# Altium integrated library Linear Technology PMIC-Switching Reg LTC1174-LTC3901.IntLib: 2647 symbols (part 148 of 310)
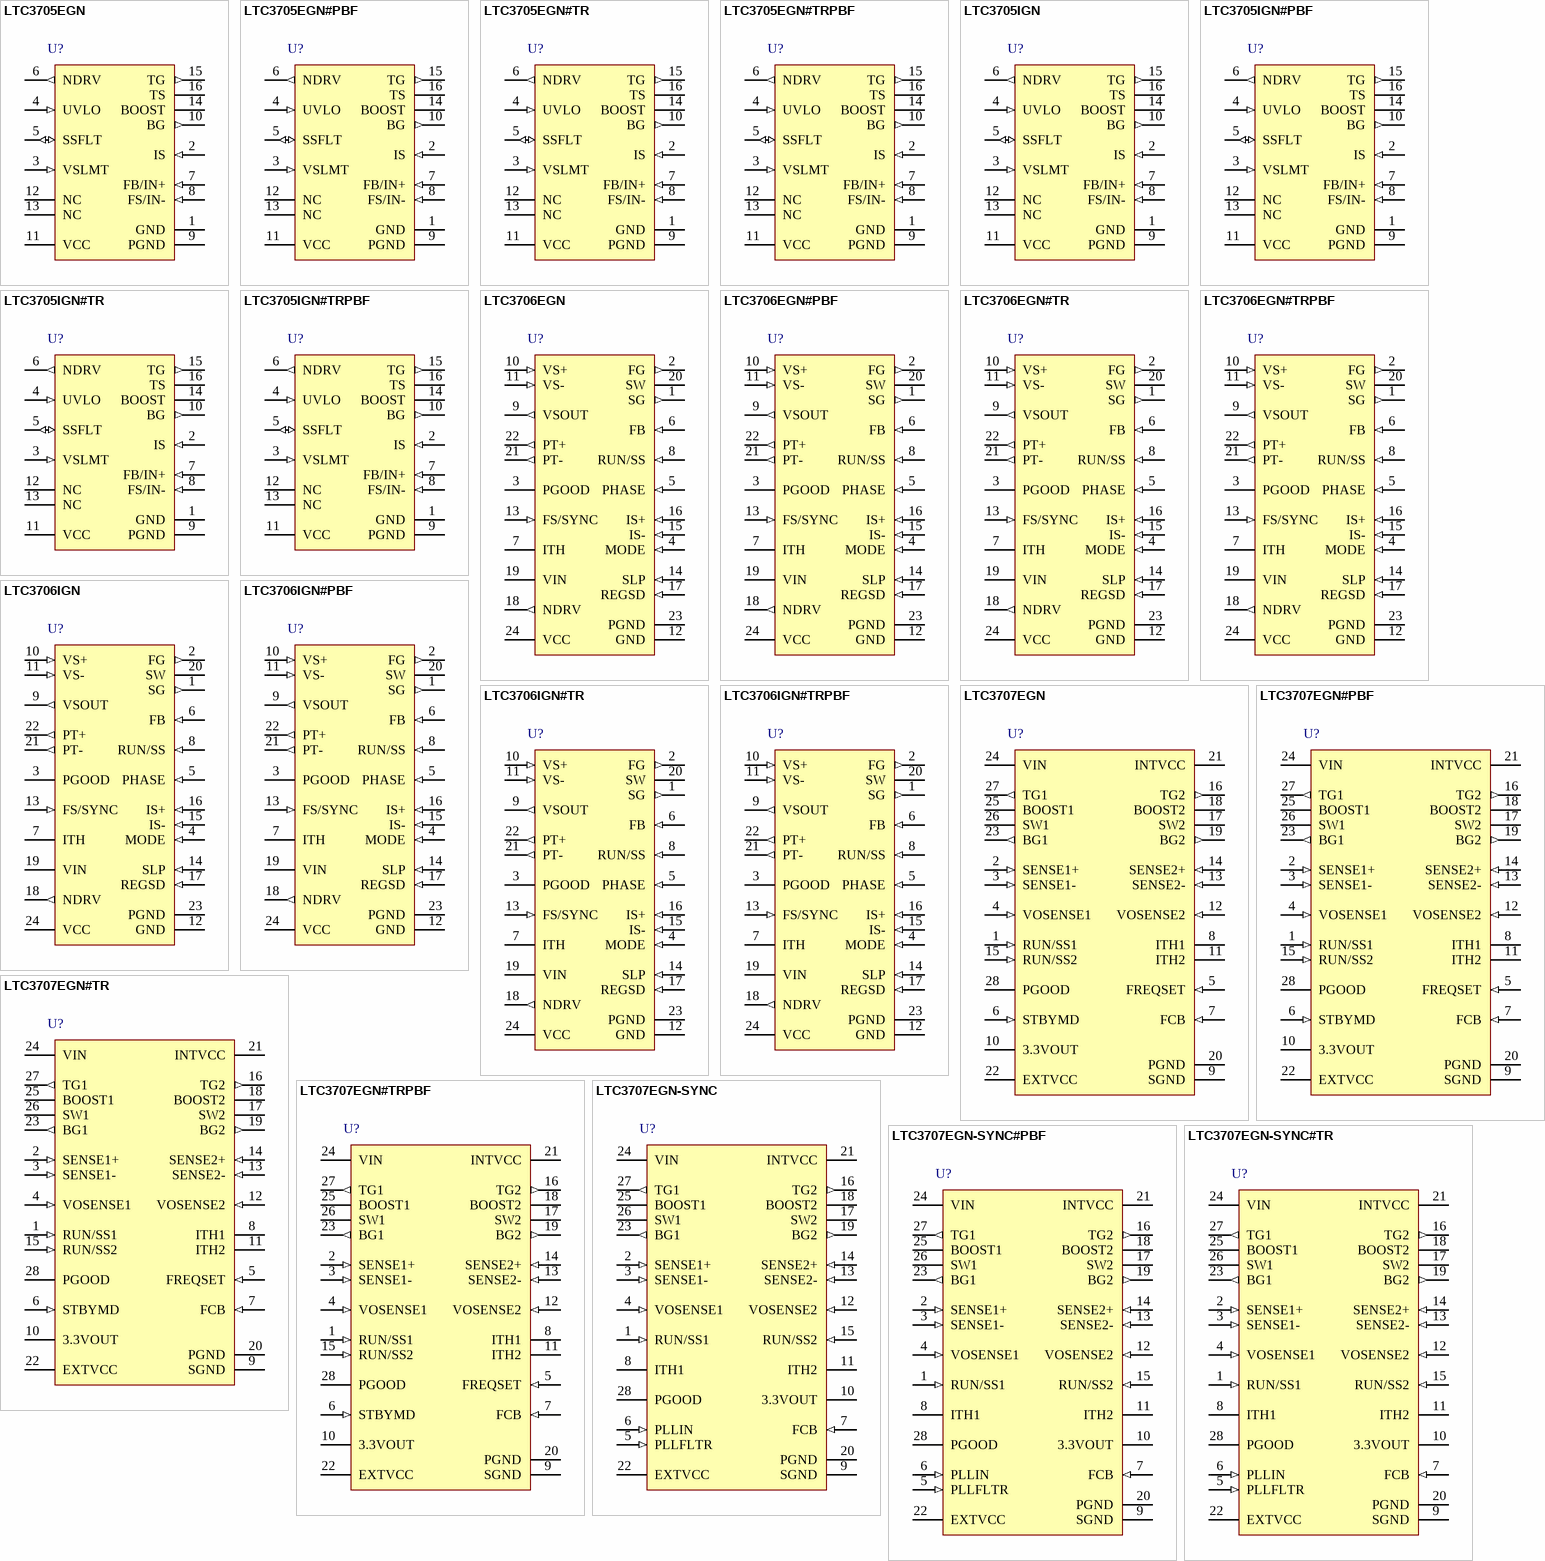
[diagram p199: symbols LTC3705EGN to LTC3707EGN-SYNC#TR]

## LTC3706IGN
designator U?
Secondary-Side Synchronous Forward Controller with Polyphase Capability, 24-pin SOP (GN-24), -40 to 85 degC; Manufacturer: Linear Technology; PartNumber: LTC3706IGN; Number of Outputs: 1; PackageReference: GN24; PackageDescription: 24-Pin Plastic SSOP , Body 8.5 x 3.9 mm, Pitch 0.635 mm; RoHS: FALSE
footprint LT-GN-24_N (SOP, 24-Leads, Body 8.7x4mm, Pitch 0.635mm, IPC Medium Density)
footprint LT-GN-24_L (SOP, 24-Leads, Body 8.7x4mm, Pitch 0.635mm, IPC High Density)
footprint LT-GN-24_M (SOP, 24-Leads, Body 8.7x4mm, Pitch 0.635mm, IPC Low Density)
pins: 1 SG (out) "Gate Drive for the “Synchronous” MOSFET.", 2 FG (out) "Gate Drive for the “Forward” MOSFET.", 3 PGOOD (oc) "Open-Drain Power Good Output. The FB pin is monitored to ensure that the output is in regulation. When the output is not in regulation, the PGOOD pin is pulled low.", 4 MODE (in) "Tie to either GND or VCC to set the maximum duty cycle at either 50% or 75% respectively. Tie to ground through either a 200k or 100k resistor (50% or 75% maximum duty cycle) to disable pulse encoding. In this mode, normal (See Datasheet)", 5 PHASE (in) "Control Input to the Phase Selector. This pin determines the phasing of the controller CLK relative to the synchronizing signal at the FS/SYNC pin.", 6 FB (in) "The Inverting Input of the Main Loop Error Amplifier.", 7 ITH "The Output of the Main Loop Error Amplifier. Place compensation components between the ITH pin and GND.", 8 RUN/SS (in) "Combination Run Control and Soft-Start Inputs. A capacitor to ground sets the ramp time of the output voltage. Holding this pin below 0.4V causes the IC to shut down all internal circuitry.", 9 VSOUT (out) "VSOUT is the output of a precision, unity-gain differential amplifier. Tie VS+ and  VS- to the output of the main DC/DC converter to achieve true remote differential sensing. This allows DCR error effects to be minimized.", 10 VS+ (in) "VSOUT is the output of a precision, unity-gain differential amplifier. Tie VS+ and  VS- to the output of the main DC/DC converter to achieve true remote differential sensing. This allows DCR error effects to be minimized.", 11 VS- (in) "VSOUT is the output of a precision, unity-gain differential amplifier. Tie VS+ and  VS- to the output of the main DC/DC converter to achieve true remote differential sensing. This allows DCR error effects to be minimized.", 12 GND (power) "Signal Ground.", 13 FS/SYNC (in) "Combination Frequency Set and SYNC pin. Tie to GND or VCC to run at 200kHz and 300kHz respectively. Place a single resistor to ground at this pin to set the frequency between 100kHz and 500kHz. To synchronize, drive this pin (See Datasheet)", 14 SLP (in) "Slope Compensation Input. Place a single resistor to ground to set the desired amount of slope compensation.", 15 IS- (in) "Negative Input to the Current Sense Circuit. When using current sense transformers, this pin may be tied to VCC for single-ended sensing with a 1.28V maximum current trip level.", 16 IS+ (in) "Positive Input to the Current Sense Circuit. Connect to the positive end of a current sense resistor or to the output of a current sense transformer.", 17 REGSD (in) "This pin is used to prevent overheating of the external linear regulator pass device that generates the VCC supply voltage from the VIN voltage. A current proportional to the voltage across the external pass device flows out (See Datasheet)", 18 NDRV (out) "Drive Output for the External Pass Device of the VCC Linear Regulator. Connect to the base (NPN) or gate (NMOS) of an external N-type device.", 19 VIN (power) "Connect to a higher voltage bias supply, typically the output of a peak detected bias winding. When not used, tie together with the VCC and NDRV pins.", 20 SW "Connect to the drain of the “synchronous” MOSFET. This input is used for adaptive shoot-through prevention and leading edge blanking.", 21 PT- (out) "Pulse Transformer Driver Outputs. For most applications, these connect to a pulse transformer (with a series DC blocking capacitor). The PWM information is multiplexed together with DC power and sent through a single pulse (See Datasheet)", 22 PT+ (out) "Pulse Transformer Driver Outputs. For most applications, these connect to a pulse transformer (with a series DC blocking capacitor). The PWM information is multiplexed together with DC power and sent through a single pulse (See Datasheet)", 23 PGND (power) "Gate Driver Ground Pin.", 24 VCC (power) "Main VCC Input for all Driver and Control Circuitry."

## LTC3706IGN#PBF
designator U?
Secondary-Side Synchronous Forward Controller with Polyphase Capability, 24-pin SOP (GN-24), -40 to 85 degC, Pb-Free; Manufacturer: Linear Technology; PartNumber: LTC3706IGN#PBF; Number of Outputs: 1; PackageReference: GN24; PackageDescription: 24-Pin Plastic SSOP , Body 8.5 x 3.9 mm, Pitch 0.635 mm; Supplier 1: Digi-Key; Supplier Part Number 1: LTC3706IGN#PBF-ND; RoHS: TRUE
footprint LT-GN-24_N (SOP, 24-Leads, Body 8.7x4mm, Pitch 0.635mm, IPC Medium Density)
footprint LT-GN-24_L (SOP, 24-Leads, Body 8.7x4mm, Pitch 0.635mm, IPC High Density)
footprint LT-GN-24_M (SOP, 24-Leads, Body 8.7x4mm, Pitch 0.635mm, IPC Low Density)
pins: 1 SG (out) "Gate Drive for the “Synchronous” MOSFET.", 2 FG (out) "Gate Drive for the “Forward” MOSFET.", 3 PGOOD (oc) "Open-Drain Power Good Output. The FB pin is monitored to ensure that the output is in regulation. When the output is not in regulation, the PGOOD pin is pulled low.", 4 MODE (in) "Tie to either GND or VCC to set the maximum duty cycle at either 50% or 75% respectively. Tie to ground through either a 200k or 100k resistor (50% or 75% maximum duty cycle) to disable pulse encoding. In this mode, normal (See Datasheet)", 5 PHASE (in) "Control Input to the Phase Selector. This pin determines the phasing of the controller CLK relative to the synchronizing signal at the FS/SYNC pin.", 6 FB (in) "The Inverting Input of the Main Loop Error Amplifier.", 7 ITH "The Output of the Main Loop Error Amplifier. Place compensation components between the ITH pin and GND.", 8 RUN/SS (in) "Combination Run Control and Soft-Start Inputs. A capacitor to ground sets the ramp time of the output voltage. Holding this pin below 0.4V causes the IC to shut down all internal circuitry.", 9 VSOUT (out) "VSOUT is the output of a precision, unity-gain differential amplifier. Tie VS+ and  VS- to the output of the main DC/DC converter to achieve true remote differential sensing. This allows DCR error effects to be minimized.", 10 VS+ (in) "VSOUT is the output of a precision, unity-gain differential amplifier. Tie VS+ and  VS- to the output of the main DC/DC converter to achieve true remote differential sensing. This allows DCR error effects to be minimized.", 11 VS- (in) "VSOUT is the output of a precision, unity-gain differential amplifier. Tie VS+ and  VS- to the output of the main DC/DC converter to achieve true remote differential sensing. This allows DCR error effects to be minimized.", 12 GND (power) "Signal Ground.", 13 FS/SYNC (in) "Combination Frequency Set and SYNC pin. Tie to GND or VCC to run at 200kHz and 300kHz respectively. Place a single resistor to ground at this pin to set the frequency between 100kHz and 500kHz. To synchronize, drive this pin (See Datasheet)", 14 SLP (in) "Slope Compensation Input. Place a single resistor to ground to set the desired amount of slope compensation.", 15 IS- (in) "Negative Input to the Current Sense Circuit. When using current sense transformers, this pin may be tied to VCC for single-ended sensing with a 1.28V maximum current trip level.", 16 IS+ (in) "Positive Input to the Current Sense Circuit. Connect to the positive end of a current sense resistor or to the output of a current sense transformer.", 17 REGSD (in) "This pin is used to prevent overheating of the external linear regulator pass device that generates the VCC supply voltage from the VIN voltage. A current proportional to the voltage across the external pass device flows out (See Datasheet)", 18 NDRV (out) "Drive Output for the External Pass Device of the VCC Linear Regulator. Connect to the base (NPN) or gate (NMOS) of an external N-type device.", 19 VIN (power) "Connect to a higher voltage bias supply, typically the output of a peak detected bias winding. When not used, tie together with the VCC and NDRV pins.", 20 SW "Connect to the drain of the “synchronous” MOSFET. This input is used for adaptive shoot-through prevention and leading edge blanking.", 21 PT- (out) "Pulse Transformer Driver Outputs. For most applications, these connect to a pulse transformer (with a series DC blocking capacitor). The PWM information is multiplexed together with DC power and sent through a single pulse (See Datasheet)", 22 PT+ (out) "Pulse Transformer Driver Outputs. For most applications, these connect to a pulse transformer (with a series DC blocking capacitor). The PWM information is multiplexed together with DC power and sent through a single pulse (See Datasheet)", 23 PGND (power) "Gate Driver Ground Pin.", 24 VCC (power) "Main VCC Input for all Driver and Control Circuitry."

## LTC3706IGN#TR
designator U?
Secondary-Side Synchronous Forward Controller with Polyphase Capability, 24-pin SOP (GN-24), -40 to 85 degC, Tape and Reel; Manufacturer: Linear Technology; PartNumber: LTC3706IGN#TR; Number of Outputs: 1; PackageReference: GN24; PackageDescription: 24-Pin Plastic SSOP , Body 8.5 x 3.9 mm, Pitch 0.635 mm; RoHS: FALSE
footprint LT-GN-24_N (SOP, 24-Leads, Body 8.7x4mm, Pitch 0.635mm, IPC Medium Density)
footprint LT-GN-24_L (SOP, 24-Leads, Body 8.7x4mm, Pitch 0.635mm, IPC High Density)
footprint LT-GN-24_M (SOP, 24-Leads, Body 8.7x4mm, Pitch 0.635mm, IPC Low Density)
pins: 1 SG (out) "Gate Drive for the “Synchronous” MOSFET.", 2 FG (out) "Gate Drive for the “Forward” MOSFET.", 3 PGOOD (oc) "Open-Drain Power Good Output. The FB pin is monitored to ensure that the output is in regulation. When the output is not in regulation, the PGOOD pin is pulled low.", 4 MODE (in) "Tie to either GND or VCC to set the maximum duty cycle at either 50% or 75% respectively. Tie to ground through either a 200k or 100k resistor (50% or 75% maximum duty cycle) to disable pulse encoding. In this mode, normal (See Datasheet)", 5 PHASE (in) "Control Input to the Phase Selector. This pin determines the phasing of the controller CLK relative to the synchronizing signal at the FS/SYNC pin.", 6 FB (in) "The Inverting Input of the Main Loop Error Amplifier.", 7 ITH "The Output of the Main Loop Error Amplifier. Place compensation components between the ITH pin and GND.", 8 RUN/SS (in) "Combination Run Control and Soft-Start Inputs. A capacitor to ground sets the ramp time of the output voltage. Holding this pin below 0.4V causes the IC to shut down all internal circuitry.", 9 VSOUT (out) "VSOUT is the output of a precision, unity-gain differential amplifier. Tie VS+ and  VS- to the output of the main DC/DC converter to achieve true remote differential sensing. This allows DCR error effects to be minimized.", 10 VS+ (in) "VSOUT is the output of a precision, unity-gain differential amplifier. Tie VS+ and  VS- to the output of the main DC/DC converter to achieve true remote differential sensing. This allows DCR error effects to be minimized.", 11 VS- (in) "VSOUT is the output of a precision, unity-gain differential amplifier. Tie VS+ and  VS- to the output of the main DC/DC converter to achieve true remote differential sensing. This allows DCR error effects to be minimized.", 12 GND (power) "Signal Ground.", 13 FS/SYNC (in) "Combination Frequency Set and SYNC pin. Tie to GND or VCC to run at 200kHz and 300kHz respectively. Place a single resistor to ground at this pin to set the frequency between 100kHz and 500kHz. To synchronize, drive this pin (See Datasheet)", 14 SLP (in) "Slope Compensation Input. Place a single resistor to ground to set the desired amount of slope compensation.", 15 IS- (in) "Negative Input to the Current Sense Circuit. When using current sense transformers, this pin may be tied to VCC for single-ended sensing with a 1.28V maximum current trip level.", 16 IS+ (in) "Positive Input to the Current Sense Circuit. Connect to the positive end of a current sense resistor or to the output of a current sense transformer.", 17 REGSD (in) "This pin is used to prevent overheating of the external linear regulator pass device that generates the VCC supply voltage from the VIN voltage. A current proportional to the voltage across the external pass device flows out (See Datasheet)", 18 NDRV (out) "Drive Output for the External Pass Device of the VCC Linear Regulator. Connect to the base (NPN) or gate (NMOS) of an external N-type device.", 19 VIN (power) "Connect to a higher voltage bias supply, typically the output of a peak detected bias winding. When not used, tie together with the VCC and NDRV pins.", 20 SW "Connect to the drain of the “synchronous” MOSFET. This input is used for adaptive shoot-through prevention and leading edge blanking.", 21 PT- (out) "Pulse Transformer Driver Outputs. For most applications, these connect to a pulse transformer (with a series DC blocking capacitor). The PWM information is multiplexed together with DC power and sent through a single pulse (See Datasheet)", 22 PT+ (out) "Pulse Transformer Driver Outputs. For most applications, these connect to a pulse transformer (with a series DC blocking capacitor). The PWM information is multiplexed together with DC power and sent through a single pulse (See Datasheet)", 23 PGND (power) "Gate Driver Ground Pin.", 24 VCC (power) "Main VCC Input for all Driver and Control Circuitry."

## LTC3706IGN#TRPBF
designator U?
Secondary-Side Synchronous Forward Controller with Polyphase Capability, 24-pin SOP (GN-24), -40 to 85 degC, Pb-Free, Tape and Reel; Manufacturer: Linear Technology; PartNumber: LTC3706IGN#TRPBF; Number of Outputs: 1; PackageReference: GN24; PackageDescription: 24-Pin Plastic SSOP , Body 8.5 x 3.9 mm, Pitch 0.635 mm; Supplier 1: Digi-Key; Supplier Part Number 1: LTC3706IGN#TRPBF-ND; RoHS: TRUE
footprint LT-GN-24_N (SOP, 24-Leads, Body 8.7x4mm, Pitch 0.635mm, IPC Medium Density)
footprint LT-GN-24_L (SOP, 24-Leads, Body 8.7x4mm, Pitch 0.635mm, IPC High Density)
footprint LT-GN-24_M (SOP, 24-Leads, Body 8.7x4mm, Pitch 0.635mm, IPC Low Density)
pins: 1 SG (out) "Gate Drive for the “Synchronous” MOSFET.", 2 FG (out) "Gate Drive for the “Forward” MOSFET.", 3 PGOOD (oc) "Open-Drain Power Good Output. The FB pin is monitored to ensure that the output is in regulation. When the output is not in regulation, the PGOOD pin is pulled low.", 4 MODE (in) "Tie to either GND or VCC to set the maximum duty cycle at either 50% or 75% respectively. Tie to ground through either a 200k or 100k resistor (50% or 75% maximum duty cycle) to disable pulse encoding. In this mode, normal (See Datasheet)", 5 PHASE (in) "Control Input to the Phase Selector. This pin determines the phasing of the controller CLK relative to the synchronizing signal at the FS/SYNC pin.", 6 FB (in) "The Inverting Input of the Main Loop Error Amplifier.", 7 ITH "The Output of the Main Loop Error Amplifier. Place compensation components between the ITH pin and GND.", 8 RUN/SS (in) "Combination Run Control and Soft-Start Inputs. A capacitor to ground sets the ramp time of the output voltage. Holding this pin below 0.4V causes the IC to shut down all internal circuitry.", 9 VSOUT (out) "VSOUT is the output of a precision, unity-gain differential amplifier. Tie VS+ and  VS- to the output of the main DC/DC converter to achieve true remote differential sensing. This allows DCR error effects to be minimized.", 10 VS+ (in) "VSOUT is the output of a precision, unity-gain differential amplifier. Tie VS+ and  VS- to the output of the main DC/DC converter to achieve true remote differential sensing. This allows DCR error effects to be minimized.", 11 VS- (in) "VSOUT is the output of a precision, unity-gain differential amplifier. Tie VS+ and  VS- to the output of the main DC/DC converter to achieve true remote differential sensing. This allows DCR error effects to be minimized.", 12 GND (power) "Signal Ground.", 13 FS/SYNC (in) "Combination Frequency Set and SYNC pin. Tie to GND or VCC to run at 200kHz and 300kHz respectively. Place a single resistor to ground at this pin to set the frequency between 100kHz and 500kHz. To synchronize, drive this pin (See Datasheet)", 14 SLP (in) "Slope Compensation Input. Place a single resistor to ground to set the desired amount of slope compensation.", 15 IS- (in) "Negative Input to the Current Sense Circuit. When using current sense transformers, this pin may be tied to VCC for single-ended sensing with a 1.28V maximum current trip level.", 16 IS+ (in) "Positive Input to the Current Sense Circuit. Connect to the positive end of a current sense resistor or to the output of a current sense transformer.", 17 REGSD (in) "This pin is used to prevent overheating of the external linear regulator pass device that generates the VCC supply voltage from the VIN voltage. A current proportional to the voltage across the external pass device flows out (See Datasheet)", 18 NDRV (out) "Drive Output for the External Pass Device of the VCC Linear Regulator. Connect to the base (NPN) or gate (NMOS) of an external N-type device.", 19 VIN (power) "Connect to a higher voltage bias supply, typically the output of a peak detected bias winding. When not used, tie together with the VCC and NDRV pins.", 20 SW "Connect to the drain of the “synchronous” MOSFET. This input is used for adaptive shoot-through prevention and leading edge blanking.", 21 PT- (out) "Pulse Transformer Driver Outputs. For most applications, these connect to a pulse transformer (with a series DC blocking capacitor). The PWM information is multiplexed together with DC power and sent through a single pulse (See Datasheet)", 22 PT+ (out) "Pulse Transformer Driver Outputs. For most applications, these connect to a pulse transformer (with a series DC blocking capacitor). The PWM information is multiplexed together with DC power and sent through a single pulse (See Datasheet)", 23 PGND (power) "Gate Driver Ground Pin.", 24 VCC (power) "Main VCC Input for all Driver and Control Circuitry."

## LTC3707EGN
designator U?
High Efficiency, 2-Phase Synchronous Step-Down Switching Regulator, 28-pin SOP (GN-28), -40 to 85 degC; Manufacturer: Linear Technology; PartNumber: LTC3707EGN; Number of Outputs: 2; PackageReference: GN-28; PackageDescription: 28-Pin Plastic SSOP, Body 9.9 x 3.9 mm, Pitch 0.635 mm; Supplier 1: Digi-Key; Supplier Part Number 1: LTC3707EGN-ND; RoHS: FALSE
footprint LT-GN-28_N (SOP, 28-Leads, Body 9.98x3.98mm, Pitch 0.635mm, IPC Medium Density)
footprint LT-GN-28_L (SOP, 28-Leads, Body 9.98x3.98mm, Pitch 0.635mm, IPC High Density)
footprint LT-GN-28_M (SOP, 28-Leads, Body 9.98x3.98mm, Pitch 0.635mm, IPC Low Density)
pins: 1 RUN/SS1 (in) "Combination of soft-start, run control inputs and short-circuit detection timers. A capacitor to ground at each of these pins sets the ramp time to full output current. Forcing either of these pins back below 1.0V causes the (See Datasheet)", 2 SENSE1+ (in) "The (+) Input to the Differential Current Comparators. The ITH pin voltage and controlled offsets between the SENSE- and SENSE+ pins in conjunction with RSENSE set the current trip threshold.", 3 SENSE1- (in) "The (-) Input to the Differential Current Comparators.", 4 VOSENSE1 (in) "Receives the remotely sensed feedback voltage for each controller from an external resistive divider across the output.", 5 FREQSET (in) "Frequency Control Input to the Oscillator. This pin can be left open, tied to ground, tied to INTVCC or driven by an external voltage source. This pin can also be used with an external phase detector to build a true (See Datasheet)", 6 STBYMD (in) "Control pin that determines which circuitry remains active when the controllers are shut down and/or provides a common control point to shut down both controllers. See the Operation section for details.", 7 FCB (in) "Forced Continuous Control Input. This input acts on both controllers and is normally used to regulate a secondary winding. Pulling this pin below 0.8V will force continuous synchronous operation on both controllers. Do not (See Datasheet)", 8 ITH1 "Error Amplifier Output and Switching Regulator Compensation Point. Each associated channels’ current comparator trip point increases with this control voltage.", 9 SGND (power) "Small Signal Ground common to both controllers, must be routed separately from high current grounds to the common (-) terminals of the COUT capacitors.", 10 3.3VOUT (power) "Output of a linear regulator capable of supplying 10mA DC with peak currents as high as 50mA.", 11 ITH2 "Error Amplifier Output and Switching Regulator Compensation Point. Each associated channels’ current comparator trip point increases with this control voltage.", 12 VOSENSE2 (in) "Receives the remotelysensed feedback voltage for each controller from an external resistive divider across the output.", 13 SENSE2- (in) "The (-) Input to the Differential Current Comparators.", 14 SENSE2+ (in) "The (+) Input to the Differential Current Comparators. The ITH pin voltage and controlled offsets between the SENSE- and SENSE+ pins in conjunction with RSENSE set the current trip threshold.", 15 RUN/SS2 (in) "Combination of soft-start, run control inputs and short-circuit detection timers. A capacitor to ground at each of these pins sets the ramp time to full output current. Forcing either of these pins back below 1.0V causes the (See Datasheet)", 16 TG2 (out) "High Current Gate Drives for Top N-Channel MOSFETs. These are the outputs of floating drivers with a voltage swing equal to INTVCC - 0.5V superimposed on the switch node voltage SW.", 17 SW2 "Switch Node Connections to Inductors. Voltage swing at these pins is from a Schottky diode (external) voltage drop below ground to VIN.", 18 BOOST2 "Bootstrapped Supplies to the Top Side Floating Drivers. Capacitors are connected between the boost and switch pins and Schottky diodes are tied between the boost and INTVCC pins. Voltage swing at the boost pins is from (See Datasheet)", 19 BG2 (out) "High Current Gate Drives for Bottom (Synchronous) N-Channel MOSFETs. Voltage swing at these pins is from ground to INTVCC.", 20 PGND (power) "Driver Power Ground. Connects to the sources of bottom (synchronous) N-channel MOSFETs, anodes of the Schottky rectifi ers and the (-) terminal(s) of CIN.", 21 INTVCC (power) "Output of the Internal 5V Linear Low Dropout Regulator and the EXTVCC Switch. The driver and control circuits are powered from this voltage source. Must be decoupled to power ground with a minimum of 4.7uF tantalum or other (See Datasheet)", 22 EXTVCC (power) "External Power Input to an Internal Switch Connected to INTVCC. This switch closes and supplies VCC power, bypassing the internal low dropout regulator, whenever EXTVCC is higher than 4.7V. See EXTVCC connection in (See Datasheet)", 23 BG1 (out) "High Current Gate Drives for Bottom (Synchronous) N-Channel MOSFETs. Voltage swing at these pins is from ground to INTVCC.", 24 VIN (power) "Main Supply Pin. A bypass capacitor should be tied between this pin and the signal ground pin.", 25 BOOST1 "Bootstrapped Supplies to the Top Side Floating Drivers. Capacitors are connected between the boost and switch pins and Schottky diodes are tied between the boost and INTVCC pins. Voltage swing at the boost pins is from (See Datasheet)", 26 SW1 "Switch Node Connections to Inductors. Voltage swing at these pins is from a Schottky diode (external) voltage drop below ground to VIN.", 27 TG1 (out) "High Current Gate Drives for Top N-Channel MOSFETs. These are the outputs of floating drivers with a voltage swing equal to INTVCC - 0.5V superimposed on the switch node voltage SW.", 28 PGOOD (oc) "Open-Drain Logic Output. PGOOD is pulled to ground when the voltage on either VOSENSE pin is not within +/-7.5% of its set point."

## LTC3707EGN#PBF
designator U?
High Efficiency, 2-Phase Synchronous Step-Down Switching Regulator, 28-pin SOP (GN-28), -40 to 85 degC, Pb-Free; Manufacturer: Linear Technology; PartNumber: LTC3707EGN#PBF; Number of Outputs: 2; PackageReference: GN-28; PackageDescription: 28-Pin Plastic SSOP, Body 9.9 x 3.9 mm, Pitch 0.635 mm; Supplier 1: Digi-Key; Supplier Part Number 1: LTC3707EGN#PBF-ND; RoHS: TRUE
footprint LT-GN-28_N (SOP, 28-Leads, Body 9.98x3.98mm, Pitch 0.635mm, IPC Medium Density)
footprint LT-GN-28_L (SOP, 28-Leads, Body 9.98x3.98mm, Pitch 0.635mm, IPC High Density)
footprint LT-GN-28_M (SOP, 28-Leads, Body 9.98x3.98mm, Pitch 0.635mm, IPC Low Density)
pins: 1 RUN/SS1 (in) "Combination of soft-start, run control inputs and short-circuit detection timers. A capacitor to ground at each of these pins sets the ramp time to full output current. Forcing either of these pins back below 1.0V causes the (See Datasheet)", 2 SENSE1+ (in) "The (+) Input to the Differential Current Comparators. The ITH pin voltage and controlled offsets between the SENSE- and SENSE+ pins in conjunction with RSENSE set the current trip threshold.", 3 SENSE1- (in) "The (-) Input to the Differential Current Comparators.", 4 VOSENSE1 (in) "Receives the remotely sensed feedback voltage for each controller from an external resistive divider across the output.", 5 FREQSET (in) "Frequency Control Input to the Oscillator. This pin can be left open, tied to ground, tied to INTVCC or driven by an external voltage source. This pin can also be used with an external phase detector to build a true (See Datasheet)", 6 STBYMD (in) "Control pin that determines which circuitry remains active when the controllers are shut down and/or provides a common control point to shut down both controllers. See the Operation section for details.", 7 FCB (in) "Forced Continuous Control Input. This input acts on both controllers and is normally used to regulate a secondary winding. Pulling this pin below 0.8V will force continuous synchronous operation on both controllers. Do not (See Datasheet)", 8 ITH1 "Error Amplifier Output and Switching Regulator Compensation Point. Each associated channels’ current comparator trip point increases with this control voltage.", 9 SGND (power) "Small Signal Ground common to both controllers, must be routed separately from high current grounds to the common (-) terminals of the COUT capacitors.", 10 3.3VOUT (power) "Output of a linear regulator capable of supplying 10mA DC with peak currents as high as 50mA.", 11 ITH2 "Error Amplifier Output and Switching Regulator Compensation Point. Each associated channels’ current comparator trip point increases with this control voltage.", 12 VOSENSE2 (in) "Receives the remotelysensed feedback voltage for each controller from an external resistive divider across the output.", 13 SENSE2- (in) "The (-) Input to the Differential Current Comparators.", 14 SENSE2+ (in) "The (+) Input to the Differential Current Comparators. The ITH pin voltage and controlled offsets between the SENSE- and SENSE+ pins in conjunction with RSENSE set the current trip threshold.", 15 RUN/SS2 (in) "Combination of soft-start, run control inputs and short-circuit detection timers. A capacitor to ground at each of these pins sets the ramp time to full output current. Forcing either of these pins back below 1.0V causes the (See Datasheet)", 16 TG2 (out) "High Current Gate Drives for Top N-Channel MOSFETs. These are the outputs of floating drivers with a voltage swing equal to INTVCC - 0.5V superimposed on the switch node voltage SW.", 17 SW2 "Switch Node Connections to Inductors. Voltage swing at these pins is from a Schottky diode (external) voltage drop below ground to VIN.", 18 BOOST2 "Bootstrapped Supplies to the Top Side Floating Drivers. Capacitors are connected between the boost and switch pins and Schottky diodes are tied between the boost and INTVCC pins. Voltage swing at the boost pins is from (See Datasheet)", 19 BG2 (out) "High Current Gate Drives for Bottom (Synchronous) N-Channel MOSFETs. Voltage swing at these pins is from ground to INTVCC.", 20 PGND (power) "Driver Power Ground. Connects to the sources of bottom (synchronous) N-channel MOSFETs, anodes of the Schottky rectifi ers and the (-) terminal(s) of CIN.", 21 INTVCC (power) "Output of the Internal 5V Linear Low Dropout Regulator and the EXTVCC Switch. The driver and control circuits are powered from this voltage source. Must be decoupled to power ground with a minimum of 4.7uF tantalum or other (See Datasheet)", 22 EXTVCC (power) "External Power Input to an Internal Switch Connected to INTVCC. This switch closes and supplies VCC power, bypassing the internal low dropout regulator, whenever EXTVCC is higher than 4.7V. See EXTVCC connection in (See Datasheet)", 23 BG1 (out) "High Current Gate Drives for Bottom (Synchronous) N-Channel MOSFETs. Voltage swing at these pins is from ground to INTVCC.", 24 VIN (power) "Main Supply Pin. A bypass capacitor should be tied between this pin and the signal ground pin.", 25 BOOST1 "Bootstrapped Supplies to the Top Side Floating Drivers. Capacitors are connected between the boost and switch pins and Schottky diodes are tied between the boost and INTVCC pins. Voltage swing at the boost pins is from (See Datasheet)", 26 SW1 "Switch Node Connections to Inductors. Voltage swing at these pins is from a Schottky diode (external) voltage drop below ground to VIN.", 27 TG1 (out) "High Current Gate Drives for Top N-Channel MOSFETs. These are the outputs of floating drivers with a voltage swing equal to INTVCC - 0.5V superimposed on the switch node voltage SW.", 28 PGOOD (oc) "Open-Drain Logic Output. PGOOD is pulled to ground when the voltage on either VOSENSE pin is not within +/-7.5% of its set point."

## LTC3707EGN#TR
designator U?
High Efficiency, 2-Phase Synchronous Step-Down Switching Regulator, 28-pin SOP (GN-28), -40 to 85 degC, Tape and Reel; Manufacturer: Linear Technology; PartNumber: LTC3707EGN#TR; Number of Outputs: 2; PackageReference: GN-28; PackageDescription: 28-Pin Plastic SSOP, Body 9.9 x 3.9 mm, Pitch 0.635 mm; Supplier 1: Digi-Key; Supplier Part Number 1: LTC3707EGN#TR-ND; RoHS: FALSE
footprint LT-GN-28_N (SOP, 28-Leads, Body 9.98x3.98mm, Pitch 0.635mm, IPC Medium Density)
footprint LT-GN-28_L (SOP, 28-Leads, Body 9.98x3.98mm, Pitch 0.635mm, IPC High Density)
footprint LT-GN-28_M (SOP, 28-Leads, Body 9.98x3.98mm, Pitch 0.635mm, IPC Low Density)
pins: 1 RUN/SS1 (in) "Combination of soft-start, run control inputs and short-circuit detection timers. A capacitor to ground at each of these pins sets the ramp time to full output current. Forcing either of these pins back below 1.0V causes the (See Datasheet)", 2 SENSE1+ (in) "The (+) Input to the Differential Current Comparators. The ITH pin voltage and controlled offsets between the SENSE- and SENSE+ pins in conjunction with RSENSE set the current trip threshold.", 3 SENSE1- (in) "The (-) Input to the Differential Current Comparators.", 4 VOSENSE1 (in) "Receives the remotely sensed feedback voltage for each controller from an external resistive divider across the output.", 5 FREQSET (in) "Frequency Control Input to the Oscillator. This pin can be left open, tied to ground, tied to INTVCC or driven by an external voltage source. This pin can also be used with an external phase detector to build a true (See Datasheet)", 6 STBYMD (in) "Control pin that determines which circuitry remains active when the controllers are shut down and/or provides a common control point to shut down both controllers. See the Operation section for details.", 7 FCB (in) "Forced Continuous Control Input. This input acts on both controllers and is normally used to regulate a secondary winding. Pulling this pin below 0.8V will force continuous synchronous operation on both controllers. Do not (See Datasheet)", 8 ITH1 "Error Amplifier Output and Switching Regulator Compensation Point. Each associated channels’ current comparator trip point increases with this control voltage.", 9 SGND (power) "Small Signal Ground common to both controllers, must be routed separately from high current grounds to the common (-) terminals of the COUT capacitors.", 10 3.3VOUT (power) "Output of a linear regulator capable of supplying 10mA DC with peak currents as high as 50mA.", 11 ITH2 "Error Amplifier Output and Switching Regulator Compensation Point. Each associated channels’ current comparator trip point increases with this control voltage.", 12 VOSENSE2 (in) "Receives the remotelysensed feedback voltage for each controller from an external resistive divider across the output.", 13 SENSE2- (in) "The (-) Input to the Differential Current Comparators.", 14 SENSE2+ (in) "The (+) Input to the Differential Current Comparators. The ITH pin voltage and controlled offsets between the SENSE- and SENSE+ pins in conjunction with RSENSE set the current trip threshold.", 15 RUN/SS2 (in) "Combination of soft-start, run control inputs and short-circuit detection timers. A capacitor to ground at each of these pins sets the ramp time to full output current. Forcing either of these pins back below 1.0V causes the (See Datasheet)", 16 TG2 (out) "High Current Gate Drives for Top N-Channel MOSFETs. These are the outputs of floating drivers with a voltage swing equal to INTVCC - 0.5V superimposed on the switch node voltage SW.", 17 SW2 "Switch Node Connections to Inductors. Voltage swing at these pins is from a Schottky diode (external) voltage drop below ground to VIN.", 18 BOOST2 "Bootstrapped Supplies to the Top Side Floating Drivers. Capacitors are connected between the boost and switch pins and Schottky diodes are tied between the boost and INTVCC pins. Voltage swing at the boost pins is from (See Datasheet)", 19 BG2 (out) "High Current Gate Drives for Bottom (Synchronous) N-Channel MOSFETs. Voltage swing at these pins is from ground to INTVCC.", 20 PGND (power) "Driver Power Ground. Connects to the sources of bottom (synchronous) N-channel MOSFETs, anodes of the Schottky rectifi ers and the (-) terminal(s) of CIN.", 21 INTVCC (power) "Output of the Internal 5V Linear Low Dropout Regulator and the EXTVCC Switch. The driver and control circuits are powered from this voltage source. Must be decoupled to power ground with a minimum of 4.7uF tantalum or other (See Datasheet)", 22 EXTVCC (power) "External Power Input to an Internal Switch Connected to INTVCC. This switch closes and supplies VCC power, bypassing the internal low dropout regulator, whenever EXTVCC is higher than 4.7V. See EXTVCC connection in (See Datasheet)", 23 BG1 (out) "High Current Gate Drives for Bottom (Synchronous) N-Channel MOSFETs. Voltage swing at these pins is from ground to INTVCC.", 24 VIN (power) "Main Supply Pin. A bypass capacitor should be tied between this pin and the signal ground pin.", 25 BOOST1 "Bootstrapped Supplies to the Top Side Floating Drivers. Capacitors are connected between the boost and switch pins and Schottky diodes are tied between the boost and INTVCC pins. Voltage swing at the boost pins is from (See Datasheet)", 26 SW1 "Switch Node Connections to Inductors. Voltage swing at these pins is from a Schottky diode (external) voltage drop below ground to VIN.", 27 TG1 (out) "High Current Gate Drives for Top N-Channel MOSFETs. These are the outputs of floating drivers with a voltage swing equal to INTVCC - 0.5V superimposed on the switch node voltage SW.", 28 PGOOD (oc) "Open-Drain Logic Output. PGOOD is pulled to ground when the voltage on either VOSENSE pin is not within +/-7.5% of its set point."

## LTC3707EGN#TRPBF
designator U?
High Efficiency, 2-Phase Synchronous Step-Down Switching Regulator, 28-pin SOP (GN-28), -40 to 85 degC, Pb-Free, Tape and Reel; Manufacturer: Linear Technology; PartNumber: LTC3707EGN#TRPBF; Number of Outputs: 2; PackageReference: GN-28; PackageDescription: 28-Pin Plastic SSOP, Body 9.9 x 3.9 mm, Pitch 0.635 mm; Supplier 1: Digi-Key; Supplier Part Number 1: LTC3707EGN#TRPBF-ND; RoHS: TRUE
footprint LT-GN-28_N (SOP, 28-Leads, Body 9.98x3.98mm, Pitch 0.635mm, IPC Medium Density)
footprint LT-GN-28_L (SOP, 28-Leads, Body 9.98x3.98mm, Pitch 0.635mm, IPC High Density)
footprint LT-GN-28_M (SOP, 28-Leads, Body 9.98x3.98mm, Pitch 0.635mm, IPC Low Density)
pins: 1 RUN/SS1 (in) "Combination of soft-start, run control inputs and short-circuit detection timers. A capacitor to ground at each of these pins sets the ramp time to full output current. Forcing either of these pins back below 1.0V causes the (See Datasheet)", 2 SENSE1+ (in) "The (+) Input to the Differential Current Comparators. The ITH pin voltage and controlled offsets between the SENSE- and SENSE+ pins in conjunction with RSENSE set the current trip threshold.", 3 SENSE1- (in) "The (-) Input to the Differential Current Comparators.", 4 VOSENSE1 (in) "Receives the remotely sensed feedback voltage for each controller from an external resistive divider across the output.", 5 FREQSET (in) "Frequency Control Input to the Oscillator. This pin can be left open, tied to ground, tied to INTVCC or driven by an external voltage source. This pin can also be used with an external phase detector to build a true (See Datasheet)", 6 STBYMD (in) "Control pin that determines which circuitry remains active when the controllers are shut down and/or provides a common control point to shut down both controllers. See the Operation section for details.", 7 FCB (in) "Forced Continuous Control Input. This input acts on both controllers and is normally used to regulate a secondary winding. Pulling this pin below 0.8V will force continuous synchronous operation on both controllers. Do not (See Datasheet)", 8 ITH1 "Error Amplifier Output and Switching Regulator Compensation Point. Each associated channels’ current comparator trip point increases with this control voltage.", 9 SGND (power) "Small Signal Ground common to both controllers, must be routed separately from high current grounds to the common (-) terminals of the COUT capacitors.", 10 3.3VOUT (power) "Output of a linear regulator capable of supplying 10mA DC with peak currents as high as 50mA.", 11 ITH2 "Error Amplifier Output and Switching Regulator Compensation Point. Each associated channels’ current comparator trip point increases with this control voltage.", 12 VOSENSE2 (in) "Receives the remotelysensed feedback voltage for each controller from an external resistive divider across the output.", 13 SENSE2- (in) "The (-) Input to the Differential Current Comparators.", 14 SENSE2+ (in) "The (+) Input to the Differential Current Comparators. The ITH pin voltage and controlled offsets between the SENSE- and SENSE+ pins in conjunction with RSENSE set the current trip threshold.", 15 RUN/SS2 (in) "Combination of soft-start, run control inputs and short-circuit detection timers. A capacitor to ground at each of these pins sets the ramp time to full output current. Forcing either of these pins back below 1.0V causes the (See Datasheet)", 16 TG2 (out) "High Current Gate Drives for Top N-Channel MOSFETs. These are the outputs of floating drivers with a voltage swing equal to INTVCC - 0.5V superimposed on the switch node voltage SW.", 17 SW2 "Switch Node Connections to Inductors. Voltage swing at these pins is from a Schottky diode (external) voltage drop below ground to VIN.", 18 BOOST2 "Bootstrapped Supplies to the Top Side Floating Drivers. Capacitors are connected between the boost and switch pins and Schottky diodes are tied between the boost and INTVCC pins. Voltage swing at the boost pins is from (See Datasheet)", 19 BG2 (out) "High Current Gate Drives for Bottom (Synchronous) N-Channel MOSFETs. Voltage swing at these pins is from ground to INTVCC.", 20 PGND (power) "Driver Power Ground. Connects to the sources of bottom (synchronous) N-channel MOSFETs, anodes of the Schottky rectifi ers and the (-) terminal(s) of CIN.", 21 INTVCC (power) "Output of the Internal 5V Linear Low Dropout Regulator and the EXTVCC Switch. The driver and control circuits are powered from this voltage source. Must be decoupled to power ground with a minimum of 4.7uF tantalum or other (See Datasheet)", 22 EXTVCC (power) "External Power Input to an Internal Switch Connected to INTVCC. This switch closes and supplies VCC power, bypassing the internal low dropout regulator, whenever EXTVCC is higher than 4.7V. See EXTVCC connection in (See Datasheet)", 23 BG1 (out) "High Current Gate Drives for Bottom (Synchronous) N-Channel MOSFETs. Voltage swing at these pins is from ground to INTVCC.", 24 VIN (power) "Main Supply Pin. A bypass capacitor should be tied between this pin and the signal ground pin.", 25 BOOST1 "Bootstrapped Supplies to the Top Side Floating Drivers. Capacitors are connected between the boost and switch pins and Schottky diodes are tied between the boost and INTVCC pins. Voltage swing at the boost pins is from (See Datasheet)", 26 SW1 "Switch Node Connections to Inductors. Voltage swing at these pins is from a Schottky diode (external) voltage drop below ground to VIN.", 27 TG1 (out) "High Current Gate Drives for Top N-Channel MOSFETs. These are the outputs of floating drivers with a voltage swing equal to INTVCC - 0.5V superimposed on the switch node voltage SW.", 28 PGOOD (oc) "Open-Drain Logic Output. PGOOD is pulled to ground when the voltage on either VOSENSE pin is not within +/-7.5% of its set point."

## LTC3707EGN-SYNC
designator U?
High Efficiency, 2-Phase Synchronous Step-Down Switching Regulator, 28-pin SOP (GN-28), -40 to 85 degC; Manufacturer: Linear Technology; PartNumber: LTC3707EGN-SYNC; Number of Outputs: 2; PackageReference: GN-28; PackageDescription: 28-Pin Plastic SSOP, Body 9.9 x 3.9 mm, Pitch 0.635 mm; Supplier 1: Digi-Key; Supplier Part Number 1: LTC3707EGN-SYNC-ND; RoHS: FALSE
footprint LT-GN-28_N (SOP, 28-Leads, Body 9.98x3.98mm, Pitch 0.635mm, IPC Medium Density)
footprint LT-GN-28_L (SOP, 28-Leads, Body 9.98x3.98mm, Pitch 0.635mm, IPC High Density)
footprint LT-GN-28_M (SOP, 28-Leads, Body 9.98x3.98mm, Pitch 0.635mm, IPC Low Density)
pins: 1 RUN/SS1 (in), 2 SENSE1+ (in) "The (+) Input to the Differential Current Comparators. The ITH pin voltage and controlled offsets between the SENSE- and SENSE+ pins in conjunction with RSENSE set the current trip threshold.", 3 SENSE1- (in) "The (-) Input to the Differential Current Comparators.", 4 VOSENSE1 (in) "Receives the remotely-sensed feedback voltage for each controller from an external resistive divider across the output.", 5 PLLFLTR (in) "The phase-locked loop’s lowpass filter is tied to this pin. Alternatively, this pin can be driven with an AC or DC voltage source to vary the frequency of the internal oscillator.", 6 PLLIN (in) "External Synchronization Input to Phase Detector. This pin is internally terminated to SGND with 50kohm. The phase-locked loop will force the rising top gate signal of controller 1 to be synchronized with the rising edge of (See Datasheet)", 7 FCB (in) "Forced Continuous Control Input. This input acts on both controllers and is normally used to regulate a secondary winding. Pulling this pin below 0.8V will force continuous synchronous operation. Do not leave this pin (See Datasheet)", 8 ITH1 "Error Amplifier Outputs and Switching Regulator Compensation Point. Each associated channels’ current comparator trip point increases with this control voltage.", 9 SGND (power) "Small Signal Ground. Common to both controllers; must be routed separately from high current grounds to the common (-) terminals of the COUT capacitors.", 10 3.3VOUT (power), 11 ITH2 "Error Amplifier Outputs and Switching Regulator Compensation Point. Each associated channels’ current comparator trip point increases with this control voltage.", 12 VOSENSE2 (in) "Receives the remotely-sensed feedback voltage for each controller from an external resistive divider across the output.", 13 SENSE2- (in) "The (-) Input to the Differential Current Comparators.", 14 SENSE2+ (in) "The (+) Input to the Differential Current Comparators. The ITH pin voltage and controlled offsets between the SENSE- and SENSE+ pins in conjunction with RSENSE set the current trip threshold.", 15 RUN/SS2 (in), 16 TG2 (out) "High Current Gate Drives for Top N-Channel MOSFETs. These are the outputs of floating drivers with a voltage swing equal to INTVCC - 0.5V superimposed on the switch node voltage SW.", 17 SW2 "Switch Node Connections to Inductors. Voltage swing at these pins is from a Schottky diode (external) voltage drop below ground to VIN.", 18 BOOST2 "Bootstrapped Supplies to the Top Side Floating Drivers. Capacitors are connected between the boost and switch pins and Schottky diodes are tied between the boost and INTVCC pins. Voltage swing at the boost pins is from (See Datasheet)", 19 BG2 (out) "High Current Gate Drives for Bottom (Synchronous) N-Channel MOSFETs. Voltage swing at these pins is from ground to INTVCC", 20 PGND (power) "Driver Power Ground. Connects to the sources of bottom (synchronous) N-channel MOSFETs, anodes of the Schottky rectifiers and the (-) terminal(s) of CIN.", 21 INTVCC (power), 22 EXTVCC (power), 23 BG1 (out) "High Current Gate Drives for Bottom (Synchronous) N-Channel MOSFETs. Voltage swing at these pins is from ground to INTVCC", 24 VIN (power) "Main Supply Pin. A bypass capacitor should be tied between this pin and the signal ground pin.", 25 BOOST1 "Bootstrapped Supplies to the Top Side Floating Drivers. Capacitors are connected between the boost and switch pins and Schottky diodes are tied between the boost and INTVCC pins. Voltage swing at the boost pins is from (See Datasheet)", 26 SW1 "Switch Node Connections to Inductors. Voltage swing at these pins is from a Schottky diode (external) voltage drop below ground to VIN.", 27 TG1 (out) "High Current Gate Drives for Top N-Channel MOSFETs. These are the outputs of floating drivers with a voltage swing equal to INTVCC - 0.5V superimposed on the switch node voltage SW.", 28 PGOOD (oc) "Open-Drain Logic Output. PGOOD is pulled to ground when the voltage on either VOSENSE pin is not within +/-7.5% of its set point."